# EAGLE library part TLV2764 (library iBionics)
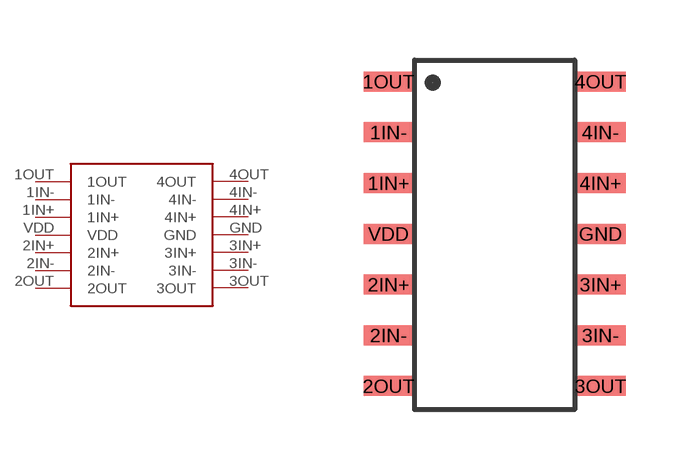
[diagram p43: symbol with the pads of TLV2764; footprint TLV2764]

Designator prefix -

## TLV2764  [TLV2764]
1IN+  1IN+  in
1IN-  1IN-  in
1OUT  1OUT  out
2IN+  2IN+  in
2IN-  2IN-  in
2OUT  2OUT  out
3IN+  3IN+  in
3IN-  3IN-  in
3OUT  3OUT  out
4IN+  4IN+  in
4IN-  4IN-  in
4OUT  4OUT  out
GND  GND  pwr
VDD  VDD  pwr

## Footprint TLV2764 (pad centres in mm)
smd 1.25 x 0.5: 1IN+ -2.65,1.27; 1IN- -2.65,2.54; 1OUT -2.65,3.81; 2IN+ -2.65,-1.27; 2IN- -2.65,-2.54; 2OUT -2.65,-3.81; 3IN+ 2.65,-1.27; 3IN- 2.65,-2.54; 3OUT 2.65,-3.81; 4IN+ 2.65,1.27; 4IN- 2.65,2.54; 4OUT 2.65,3.81; GND 2.65,0; VDD -2.65,0